# Altium schematic symbol library resistors.SchLib: 8 symbols
Pins are listed as number, name and electrical type; pins without a type are passive.

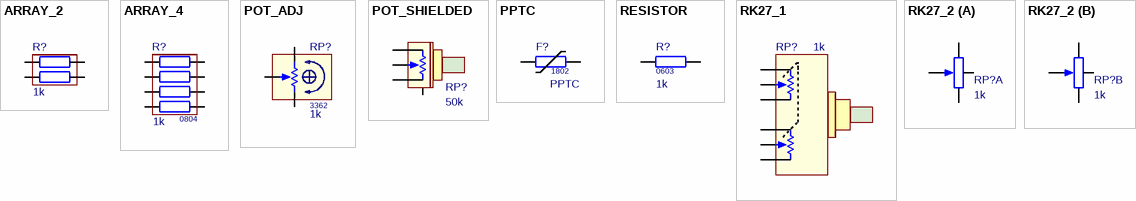
[diagram p0: symbols ARRAY_2 to RK27_2]

## ARRAY_2
designator R?, comment 1k
2xRES; Value: RESISTOR_ARRAY; PackageReference: *
pins: 1, 2, 3, 4

## ARRAY_4
designator R?, comment 1k  PackageReference: 0804
4xRES; Value: RESISTOR_ARRAY
footprint R0804X4 (Chip Array, Flat, 8-Leads, Pitch 0,50mm,  Body 2,00x1,00mm,  IPC Medium Density)
pins: 1, 2, 3, 4, 5, 6, 7, 8

## POT_ADJ
designator RP?, comment 1k  PackageReference: 3362
POT; Value: POT_RESISTOR
simulation model POT (Potentiometer)
footprint POT_3362P (3362 - 1/4 ” Square Trimpot® Trimming Potentiometer)
footprint POT_3296W (3296 - 3/8 ” Square Trimpot® Trimming Potentiometer)
pins: 1 CCW, 2 WIPER, 3 CW
1 alternate drawing of the same symbol

## POT_SHIELDED
designator RP?, comment 50k
Value: RV09ACF-40-20K-B50K; PackageReference: RV09A(B)CF-40
simulation model POT (Potentiometer)
footprint RV09A(B)CF-40 (9mm Rotary Type, Snap-In, Insulated Shaft)
pins: 1, 2, 3, SHLD
1 alternate drawing of the same symbol

## PPTC
designator F?  PackageReference: 1802
Resettable PTC fuse; Value: PTC
footprint F1802 (Chip Fuse, 2-Leads, Body 4,60x3,24mm, IPC Medium Density)
pins: 1, 2

## RESISTOR
designator R?, comment 1k  PackageReference: 0603
RES; Value: RESISTOR
footprint R0805
footprint R0603
footprint R1206
footprint R1210
footprint R2512
footprint R2010
footprint R2611
footprint TH-0.25W-H (Through hole mount resistor 0.25 Watt)
footprint TH-0.5W-H (Through hole mount resistor 0.5 Watt)
footprint TH-1.0W-H (Through hole mount resistor 1 Watt)
footprint R0402
footprint RL5 (Leads, between 5mm)
pins: 1, 2

## RK27_1
designator RP?, comment 1k
POT; Value: POT_RESISTOR
footprint RK27-DUAL (Single-shaft, dual-unit RK27112)
pins: 1R1, 1R2, 1R3, 2R1, 2R2, 2R3
1 alternate drawing of the same symbol

## RK27_2
designator RP?, comment 1k
POT; Value: POT_RESISTOR
footprint RK27-DUAL (Single-shaft, dual-unit RK27112)
part A pins: 1R0, 1R1, 1R2, 1R3
part B pins: 2R0, 2R1, 2R2, 2R3
1 alternate drawing of the same symbol